# Altium footprint library layersAndNumbers.PcbLib: 30 footprints (part 1 of 2)
Each footprint in its own frame and in the unit in brackets; x right, y up, seen from the top. Pads: shape width x height; smd on the part's side, far side on the other; paste and mask are expansions set on the pad; w line width, h text height; cw(c..) or ccw(c..) is an arc to the next point about the centre after c.
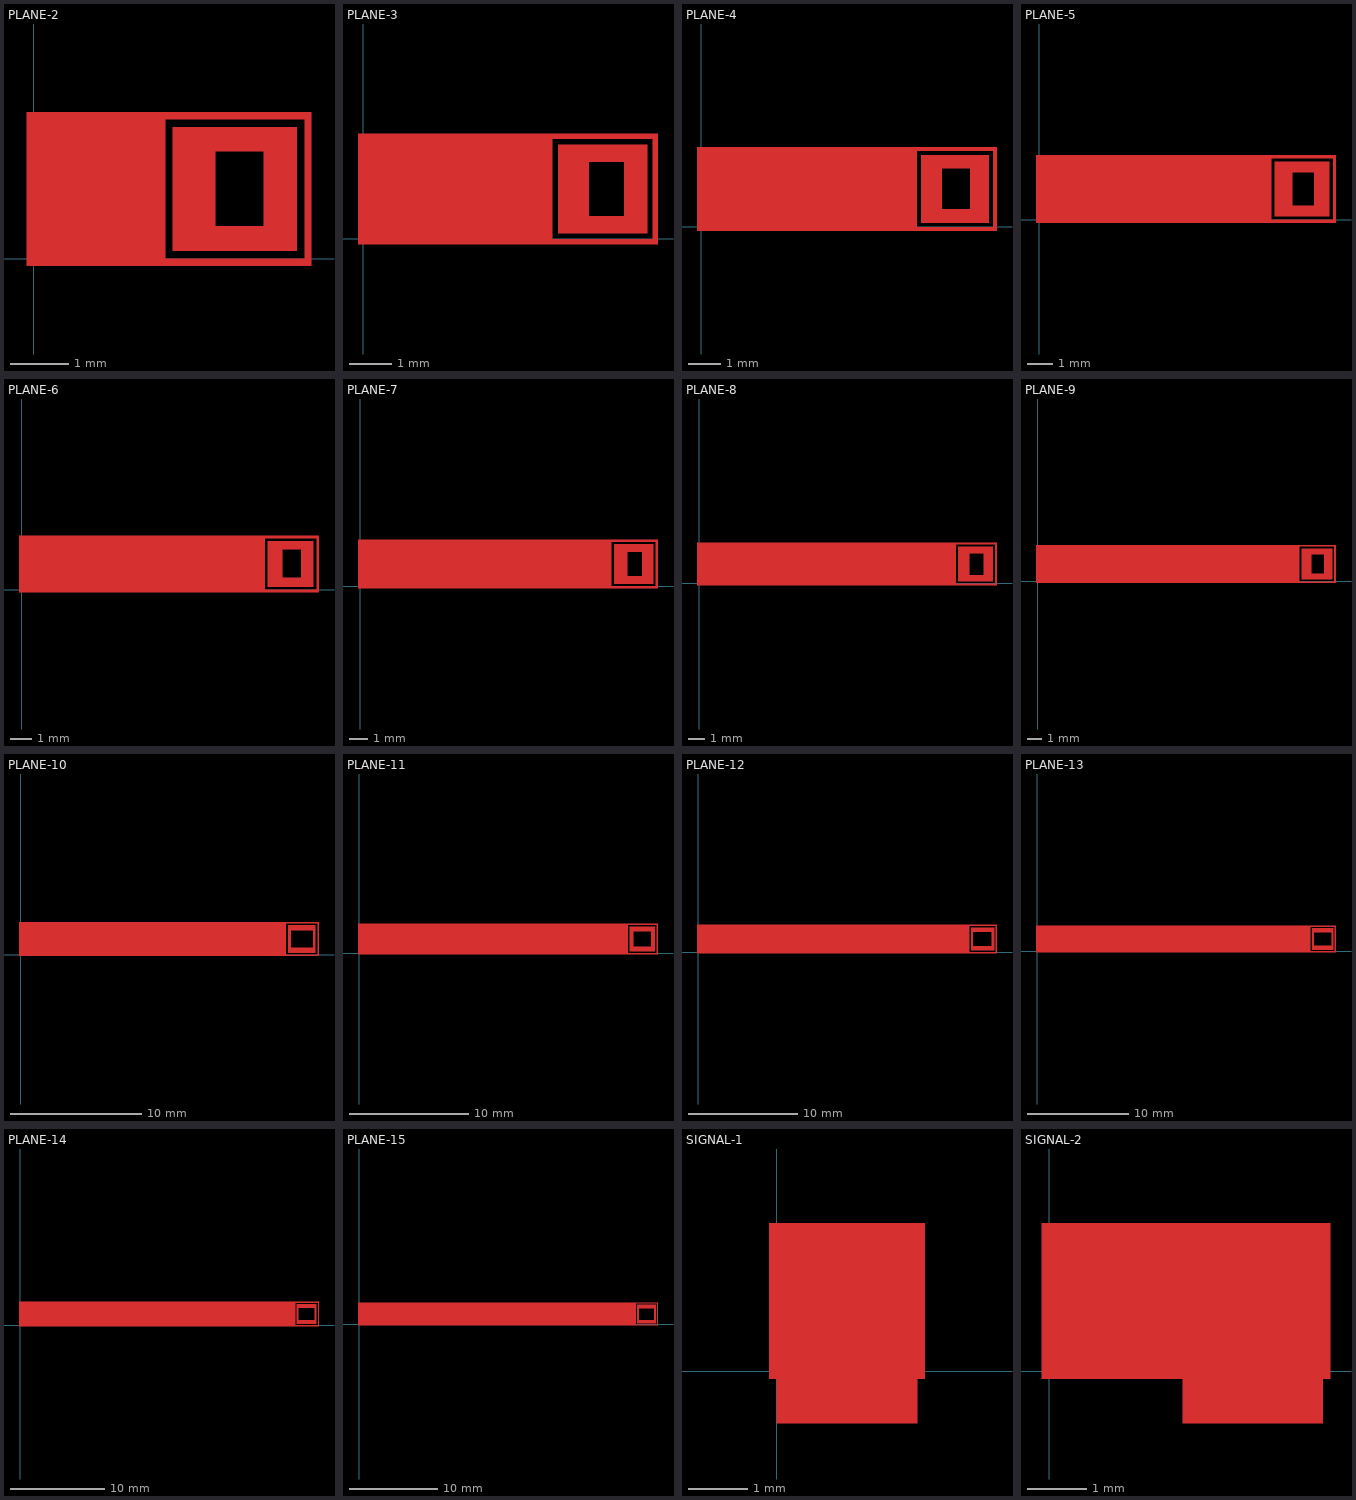
[diagram p0: the footprints below, top view; thin cyan lines are the x and y axes]

## PLANE-2 [mm]
Top Layer:
  rectangle: -0.125,-0.125 2.25,2.5
  rectangle: 2.375,0.125 3.103,2.25
  region: 4.5,1.83 4.5,2.25 2.375,2.25 2.375,1.83
  region: 4.5,2.25 3.923,2.25 3.923,0.125 4.5,0.125
  region: 2.375,0.552 2.375,0.125 4.5,0.125 4.5,0.552
  region: 4.75,-0.125 4.75,0 2.125,0 2.125,-0.125
  rectangle: 4.625,-0.125 4.75,2.5
  region: 4.75,2.375 4.75,2.5 2.125,2.5 2.125,2.375
  rectangle: 2.375,0.125 3.103,2.25
  region: 4.5,1.83 4.5,2.25 2.375,2.25 2.375,1.83
  region: 4.5,2.25 3.923,2.25 3.923,0.125 4.5,0.125
  region: 2.375,0.552 2.375,0.125 4.5,0.125 4.5,0.552
  rectangle: 2.125,-0.125 2.25,2.5
  region: 4.75,-0.125 4.75,0 2.125,0 2.125,-0.125
  text "2" at 3.075,0.55 h2
  text "2" at 3.075,0.55 h2
Top Solder:
  rectangle: 2.25,0 4.625,2.375
  rectangle: 2.25,0 4.625,2.375
Bottom Solder:
  rectangle: 2.25,0 4.625,2.375
  rectangle: 2.25,0 4.625,2.375

## PLANE-3 [mm]
Top Layer:
  rectangle: 6.875,-0.125 7,2.5
  region: 7,-0.125 7,0 4.375,0 4.375,-0.125
  region: 4.625,0.552 4.625,0.125 6.75,0.125 6.75,0.552
  region: 6.75,2.25 6.189,2.25 6.189,0.125 6.75,0.125
  region: 6.75,1.83 6.75,2.25 4.625,2.25 4.625,1.83
  rectangle: 4.625,0.125 5.356,2.25
  region: 7,2.375 7,2.5 4.375,2.5 4.375,2.375
  rectangle: -0.125,-0.125 4.399,2.5
  region: 7,-0.125 7,0 4.375,0 4.375,-0.125
  region: 4.625,0.552 4.625,0.125 6.75,0.125 6.75,0.552
  region: 6.75,2.25 6.189,2.25 6.189,0.125 6.75,0.125
  region: 6.75,1.83 6.75,2.25 4.625,2.25 4.625,1.83
  rectangle: 4.625,0.125 5.356,2.25
  region: 7,2.375 7,2.5 4.375,2.5 4.375,2.375
  rectangle: 2.125,-0.125 2.25,2.5
  rectangle: 4.375,-0.125 4.5,2.5
  text "3" at 5.353,0.552 h2
  text "3" at 5.353,0.552 h2
Top Solder:
  rectangle: 4.5,0 6.875,2.375
  rectangle: 4.5,0 6.875,2.375
Bottom Solder:
  rectangle: 4.5,0 6.875,2.375
  rectangle: 4.5,0 6.875,2.375

## PLANE-4 [mm]
Top Layer:
  rectangle: 6.625,-0.125 6.75,2.5
  rectangle: 9.125,-0.125 9.25,2.5
  region: 9.25,-0.125 9.25,0 6.625,0 6.625,-0.125
  region: 6.875,0.562 6.875,0.125 9,0.125 9,0.562
  region: 9,2.25 8.413,2.25 8.413,0.125 9,0.125
  region: 9,1.83 9,2.25 6.875,2.25 6.875,1.83
  region: 9.25,2.375 9.25,2.5 6.625,2.5 6.625,2.375
  rectangle: -0.125,-0.125 6.636,2.5
  region: 9.25,-0.125 9.25,0 6.625,0 6.625,-0.125
  region: 6.875,0.562 6.875,0.125 9,0.125 9,0.562
  region: 9,1.83 9,2.25 6.875,2.25 6.875,1.83
  rectangle: 6.875,0.125 7.535,2.25
  region: 9.25,2.375 9.25,2.5 6.625,2.5 6.625,2.375
  text "4" at 7.53,0.552 h2
  text "4" at 7.53,0.552 h2
Top Solder:
  rectangle: 6.75,0 9.125,2.375
  rectangle: 6.75,0 9.125,2.375
Bottom Solder:
  rectangle: 6.75,0 9.125,2.375
  rectangle: 6.75,0 9.125,2.375

## PLANE-5 [mm]
Top Layer:
  region: 11.5,-0.125 11.5,0 8.875,0 8.875,-0.125
  rectangle: 11.375,-0.125 11.5,2.5
  region: 9.125,0.552 9.125,0.125 11.25,0.125 11.25,0.552
  region: 11.25,2.25 10.654,2.25 10.654,0.125 11.25,0.125
  region: 11.25,1.83 11.25,2.25 9.125,2.25 9.125,1.83
  region: 11.5,2.375 11.5,2.5 8.875,2.5 8.875,2.375
  rectangle: 8.875,-0.125 9,2.5
  rectangle: -0.125,-0.125 8.895,2.5
  region: 11.5,-0.125 11.5,0 8.875,0 8.875,-0.125
  region: 9.125,0.552 9.125,0.125 11.25,0.125 11.25,0.552
  region: 11.25,1.83 11.25,2.25 9.125,2.25 9.125,1.83
  rectangle: 9.125,0.125 9.808,2.25
  region: 11.5,2.375 11.5,2.5 8.875,2.5 8.875,2.375
  text "5" at 9.806,0.567 h2
  text "5" at 9.806,0.567 h2
Top Solder:
  rectangle: 9,0 11.375,2.375
  rectangle: 9,0 11.375,2.375
Bottom Solder:
  rectangle: 9,0 11.375,2.375
  rectangle: 9,0 11.375,2.375

## PLANE-6 [mm]
Top Layer:
  rectangle: 11.125,-0.125 11.25,2.5
  rectangle: 13.625,-0.125 13.75,2.5
  region: 13.75,2.375 13.75,2.5 11.125,2.5 11.125,2.375
  region: 13.5,1.848 13.5,2.25 11.375,2.25 11.375,1.848
  region: 11.375,0.552 11.375,0.125 13.5,0.125 13.5,0.552
  region: 13.75,-0.125 13.75,0 11.125,0 11.125,-0.125
  rectangle: -0.125,-0.125 11.142,2.5
  rectangle: 13.625,-0.125 13.75,2.5
  region: 13.75,2.375 13.75,2.5 11.125,2.5 11.125,2.375
  rectangle: 11.375,0.125 12.068,2.25
  region: 13.5,1.848 13.5,2.25 11.375,2.25 11.375,1.848
  region: 13.5,2.25 12.907,2.25 12.907,0.125 13.5,0.125
  region: 11.375,0.552 11.375,0.125 13.5,0.125 13.5,0.552
  region: 13.75,-0.125 13.75,0 11.125,0 11.125,-0.125
  text "6" at 12.063,0.567 h2
  text "6" at 12.063,0.567 h2
Top Solder:
  rectangle: 11.25,0 13.625,2.375
  rectangle: 11.25,0 13.625,2.375
Bottom Solder:
  rectangle: 11.25,0 13.625,2.375
  rectangle: 11.25,0 13.625,2.375

## PLANE-7 [mm]
Top Layer:
  region: 16,-0.125 16,0 13.375,0 13.375,-0.125
  rectangle: 15.875,-0.125 16,2.5
  region: 13.625,0.552 13.625,0.125 15.75,0.125 15.75,0.552
  region: 15.75,2.25 15.148,2.25 15.148,0.125 15.75,0.125
  region: 15.75,1.83 15.75,2.25 13.625,2.25 13.625,1.83
  region: 16,2.375 16,2.5 13.375,2.5 13.375,2.375
  rectangle: -0.125,-0.125 13.398,2.5
  region: 16,-0.125 16,0 13.375,0 13.375,-0.125
  region: 13.625,0.552 13.625,0.125 15.75,0.125 15.75,0.552
  region: 15.75,1.83 15.75,2.25 13.625,2.25 13.625,1.83
  rectangle: 13.625,0.125 14.353,2.25
  region: 16,2.375 16,2.5 13.375,2.5 13.375,2.375
  rectangle: 13.375,-0.125 13.5,2.5
  text "7" at 14.325,0.55 h2
  text "7" at 14.325,0.55 h2
Top Solder:
  rectangle: 13.5,0 15.875,2.375
  rectangle: 13.5,0 15.875,2.375
Bottom Solder:
  rectangle: 13.5,0 15.875,2.375
  rectangle: 13.5,0 15.875,2.375

## PLANE-8 [mm]
Top Layer:
  region: 15.875,0.528 15.875,0.125 18,0.125 18,0.528
  region: 18.25,2.375 18.25,2.5 15.625,2.5 15.625,2.375
  region: 18,1.83 18,2.25 15.875,2.25 15.875,1.83
  rectangle: 18.125,-0.125 18.25,2.5
  rectangle: 15.625,-0.125 15.75,2.5
  region: 18.25,-0.125 18.25,0 15.625,0 15.625,-0.125
  rectangle: -0.125,-0.125 15.638,2.5
  region: 15.875,0.528 15.875,0.125 18,0.125 18,0.528
  region: 18.25,2.375 18.25,2.5 15.625,2.5 15.625,2.375
  rectangle: 15.875,0.125 16.576,2.25
  region: 18,1.83 18,2.25 15.875,2.25 15.875,1.83
  region: 18,2.25 17.419,2.25 17.419,0.125 18,0.125
  region: 18.25,-0.125 18.25,0 15.625,0 15.625,-0.125
  text "8" at 16.575,0.55 h2
  text "8" at 16.575,0.55 h2
Top Solder:
  rectangle: 15.75,0 18.125,2.375
  rectangle: 15.75,0 18.125,2.375
Bottom Solder:
  rectangle: 15.75,0 18.125,2.375
  rectangle: 15.75,0 18.125,2.375

## PLANE-9 [mm]
Top Layer:
  rectangle: 20.375,-0.125 20.5,2.5
  region: 20.5,2.375 20.5,2.5 17.875,2.5 17.875,2.375
  region: 20.25,1.836 20.25,2.25 18.125,2.25 18.125,1.836
  region: 18.125,0.533 18.125,0.125 20.25,0.125 20.25,0.533
  rectangle: 17.875,-0.125 18,2.5
  region: 20.5,-0.125 20.5,0 17.875,0 17.875,-0.125
  rectangle: -0.125,-0.125 17.894,2.5
  region: 20.5,2.375 20.5,2.5 17.875,2.5 17.875,2.375
  rectangle: 18.125,0.125 18.827,2.25
  region: 20.25,1.836 20.25,2.25 18.125,2.25 18.125,1.836
  region: 20.25,2.25 19.665,2.25 19.665,0.125 20.25,0.125
  region: 18.125,0.533 18.125,0.125 20.25,0.125 20.25,0.533
  region: 20.5,-0.125 20.5,0 17.875,0 17.875,-0.125
  text "9" at 18.825,0.55 h2
  text "9" at 18.825,0.55 h2
Top Solder:
  rectangle: 18,0 20.375,2.375
  rectangle: 18,0 20.375,2.375
Bottom Solder:
  rectangle: 18,0 20.375,2.375
  rectangle: 18,0 20.375,2.375

## PLANE-10 [mm]
Top Layer:
  region: 22.75,2.375 22.75,2.5 20.125,2.5 20.125,2.375
  rectangle: 20.375,0.125 20.6,2.25
  region: 22.5,1.83 22.5,2.25 20.375,2.25 20.375,1.83
  region: 22.5,2.25 22.311,2.25 22.311,0.125 22.5,0.125
  region: 20.375,0.528 20.375,0.125 22.5,0.125 22.5,0.528
  region: 22.75,-0.125 22.75,0 20.125,0 20.125,-0.125
  rectangle: -0.125,-0.125 20.145,2.5
  rectangle: 20.125,-0.125 20.25,2.5
  rectangle: 22.625,-0.125 22.75,2.5
  region: 22.75,2.375 22.75,2.5 20.125,2.5 20.125,2.375
  region: 22.5,1.83 22.5,2.25 20.375,2.25 20.375,1.83
  region: 20.375,0.528 20.375,0.125 22.5,0.125 22.5,0.528
  region: 22.75,-0.125 22.75,0 20.125,0 20.125,-0.125
  text "10" at 20.598,0.549 h2
  text "10" at 20.598,0.549 h2
Top Solder:
  rectangle: 20.25,0 22.625,2.375
  rectangle: 20.25,0 22.625,2.375
Bottom Solder:
  rectangle: 20.25,0 22.625,2.375
  rectangle: 20.25,0 22.625,2.375

## PLANE-11 [mm]
Top Layer:
  rectangle: 22.375,-0.125 22.5,2.5
  rectangle: -0.125,-0.125 22.395,2.5
  region: 25,2.375 25,2.5 22.375,2.5 22.375,2.375
  rectangle: 22.625,0.125 22.957,2.25
  region: 24.75,1.814 24.75,2.25 22.625,2.25 22.625,1.814
  region: 24.75,2.25 24.424,2.25 24.424,0.125 24.75,0.125
  region: 22.625,0.552 22.625,0.125 24.75,0.125 24.75,0.552
  region: 25,-0.125 25,0 22.375,0 22.375,-0.125
  rectangle: 24.875,-0.125 25,2.5
  text "11" at 22.954,0.527 h2
Top Solder:
  rectangle: 22.5,0 24.875,2.375
Bottom Solder:
  rectangle: 22.5,0 24.875,2.375

## PLANE-12 [mm]
Top Layer:
  rectangle: 27.125,-0.125 27.25,2.5
  region: 27.25,-0.125 27.25,0 24.625,0 24.625,-0.125
  region: 24.875,0.552 24.875,0.125 27,0.125 27,0.552
  region: 27,2.25 26.766,2.25 26.766,0.125 27,0.125
  region: 27,1.812 27,2.25 24.875,2.25 24.875,1.812
  rectangle: 24.875,0.125 25.063,2.25
  region: 27.25,2.375 27.25,2.5 24.625,2.5 24.625,2.375
  rectangle: 24.625,-0.125 24.75,2.5
  rectangle: -0.125,-0.125 24.642,2.5
  text "12" at 25.063,0.527 h2
Top Solder:
  rectangle: 24.75,0 27.125,2.375
Bottom Solder:
  rectangle: 24.75,0 27.125,2.375

## PLANE-13 [mm]
Top Layer:
  rectangle: -0.125,-0.125 26.898,2.5
  rectangle: 26.875,-0.125 27,2.5
  region: 29.5,2.375 29.5,2.5 26.875,2.5 26.875,2.375
  rectangle: 27.125,0.125 27.322,2.25
  region: 29.25,1.83 29.25,2.25 27.125,2.25 27.125,1.83
  region: 29.25,2.25 29.034,2.25 29.034,0.125 29.25,0.125
  region: 27.125,0.528 27.125,0.125 29.25,0.125 29.25,0.528
  rectangle: 29.375,-0.125 29.5,2.5
  region: 29.5,-0.125 29.5,0 26.875,0 26.875,-0.125
  text "13" at 27.319,0.549 h2
Top Solder:
  rectangle: 27,0 29.375,2.375
Bottom Solder:
  rectangle: 27,0 29.375,2.375

## PLANE-14 [mm]
Top Layer:
  rectangle: -0.125,-0.125 29.145,2.5
  region: 31.75,-0.125 31.75,0 29.125,0 29.125,-0.125
  rectangle: 31.625,-0.125 31.75,2.5
  region: 29.375,0.527 29.375,0.125 31.5,0.125 31.5,0.527
  region: 31.5,2.25 31.288,2.25 31.288,0.125 31.5,0.125
  region: 31.5,1.812 31.5,2.25 29.375,2.25 29.375,1.812
  rectangle: 29.375,0.125 29.582,2.25
  region: 31.75,2.375 31.75,2.5 29.125,2.5 29.125,2.375
  rectangle: 29.125,-0.125 29.25,2.5
  text "14" at 29.579,0.527 h2
Top Solder:
  rectangle: 29.25,0 31.625,2.375
Bottom Solder:
  rectangle: 29.25,0 31.625,2.375

## PLANE-15 [mm]
Top Layer:
  rectangle: -0.125,-0.125 31.396,2.5
  region: 34,-0.125 34,0 31.375,0 31.375,-0.125
  rectangle: 31.375,-0.125 31.5,2.5
  rectangle: 33.875,-0.125 34,2.5
  region: 31.625,0.528 31.625,0.125 33.75,0.125 33.75,0.528
  region: 33.75,2.25 33.562,2.25 33.562,0.125 33.75,0.125
  region: 33.75,1.835 33.75,2.25 31.625,2.25 31.625,1.835
  rectangle: 31.625,0.125 31.84,2.25
  region: 34,2.375 34,2.5 31.375,2.5 31.375,2.375
  text "15" at 31.837,0.549 h2
Top Solder:
  rectangle: 31.5,0 33.875,2.375
Bottom Solder:
  rectangle: 31.5,0 33.875,2.375

## SIGNAL-1 [mm]
Top Layer:
  rectangle: 2.25,0 2.375,2.375
  region: 0,0.125 0,-0.889 2.375,-0.889 2.375,0.125
  region: 2.375,2.375 2.25,2.375 2.25,0 2.375,0
  region: 2.375,2.25 2.375,2.375 0,2.375 0,2.25
  rectangle: 0,0 0.125,2.375
  pour cut-out: -0.125,2.5 -0.125,-0.125 2.5,-0.125 2.5,2.5
  text "1" at 0.925,0.55 h2
Top Solder:
  rectangle: 0,0 2.375,2.375
Bottom Solder:
  rectangle: 0,0 2.375,2.375

## SIGNAL-2 [mm]
Top Layer:
  rectangle: 4.5,0 4.625,2.375
  region: 4.625,2.25 4.625,2.375 2.25,2.375 2.25,2.25
  region: 4.625,2.375 4.5,2.375 4.5,0 4.625,0
  region: 2.25,0.125 2.25,-0.889 4.625,-0.889 4.625,0.125
  region: 2.375,2.375 2.25,2.375 2.25,0 2.375,0
  pour cut-out: -0.125,2.5 -0.125,-0.125 4.75,-0.125 4.75,2.5
  text "2" at 3.048,0.55 h2
Top Solder:
  rectangle: 2.25,0 4.625,2.375
Bottom Solder:
  rectangle: 2.25,0 4.625,2.375